# EAGLE library part OPENS_POWER_8 (library eDNA)
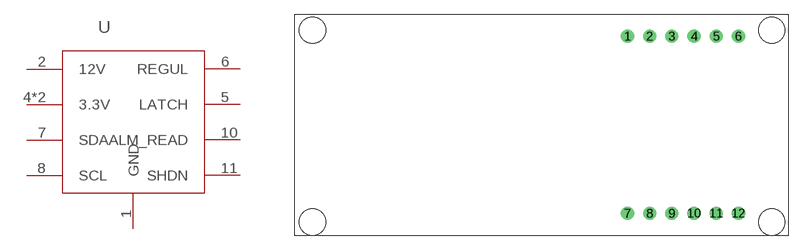
[diagram p7: symbol with the pads of OPEN_POWER_8; footprint OPEN_POWER_8]

Designator prefix -

## OPENS_POWER_8  [OPEN_POWER_8]
1  GND
2  12V
4  3.3V
5  LATCH
6  REGUL
7  SDA
8  SCL
9  3.3V
10  ALM_READ
11  SHDN

## Footprint OPEN_POWER_8 (pad centres in mm)
drill 1: 1 2.54,12.7; 2 5.08,12.7; 3 7.62,12.7; 4 10.16,12.7; 5 12.7,12.7; 6 15.24,12.7; 7 2.54,-7.62; 8 5.08,-7.62; 9 7.62,-7.62; 10 10.16,-7.62; 11 12.7,-7.62; 12 15.24,-7.62
hole 3 at 19.05,13.38
hole 3 at 19.05,-8.62
hole 3 at -33.5,-8.62
hole 3 at -33.5,13.38